# Altium footprint library AMPMAFB-50.0000T.PcbLib: 1 footprints
Each footprint in its own frame and in the unit in brackets; x right, y up, seen from the top. Pads: shape width x height; smd on the part's side, far side on the other; paste and mask are expansions set on the pad; w line width, h text height; cw(c..) or ccw(c..) is an arc to the next point about the centre after c.
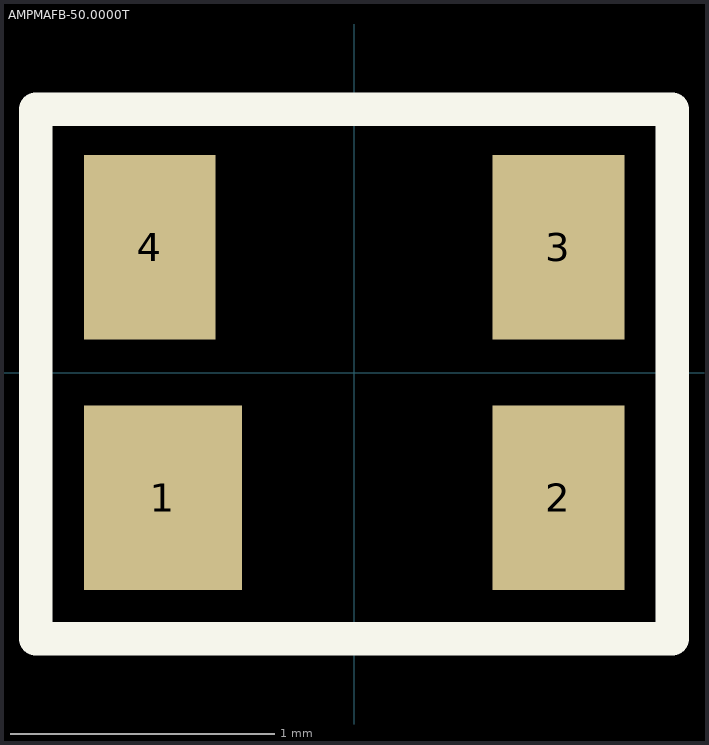
[diagram p0: the footprint, top view; thin cyan lines are the x and y axes]

## AMPMAFB-50.0000T [mm]
pads (4):
  rect 0.6x0.7 smd: 1(-0.725,-0.475)
  rect 0.5x0.7 smd: 2(0.775,-0.475) 3(0.775,0.475) 4(-0.775,0.475)
Top Overlay:
  lines w0.127: -1.207,-1.008 -1.207,0.998 1.206,0.998 1.206,-1.008 -1.207,-1.008